# EAGLE library part CON-16 (library firefly)
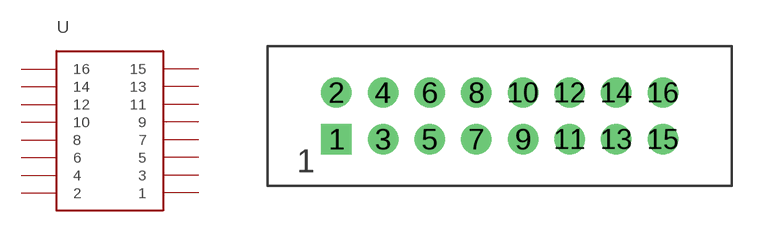
[diagram p42: symbol with the pads of CON-HEADER-2X8; footprint CON-HEADER-2X8]

Designator prefix -

## CON-16CON-HEADER-2X8  [CON-HEADER-2X8]
1  1
2  2
3  3
4  4
5  5
6  6
7  7
8  8
9  9
10  10
11  11
12  12
13  13
14  14
15  15
16  16

## Footprint CON-HEADER-2X8 (pad centres in mm)
drill 1.102 square: 1 -8.89,-1.27
drill 1.102: 2 -8.89,1.27; 3 -6.35,-1.27; 4 -6.35,1.27; 5 -3.81,-1.27; 6 -3.81,1.27; 7 -1.27,-1.27; 8 -1.27,1.27; 9 1.27,-1.27; 10 1.27,1.27; 11 3.81,-1.27; 12 3.81,1.27; 13 6.35,-1.27; 14 6.35,1.27; 15 8.89,-1.27; 16 8.89,1.27